# EAGLE library part 615008160021 (library WR-MJ)
WR-MJ Gigabit Ethernet Modular Jacks – THT Characteristics Shieldingless and Shielded with EMI-Spring option Vertical and Horizontal orientations Tray Packaging Properties PoE++ Compatible up to 100W (IEEE 802.3bt) UL and cULus-Certified UL94-V0 reflow-compatible insulator material Ethernet Category 5e to 6A Applications Telecommunications Computing Video Internet of Things Smart Buildings <https://www.we-online.com/components/media/o161613v209%20Family_WR-MJTH_615008160021.jpg> Details see: www.we-online.com/en/components/products/WR_MJ_MODULAR_JACKS_OVER <www.we-online.com/catalog/WR_MJ_MODULAR_JACKS_OVER/?utm_source=eagle_model&utm_medium=description_link&utm_campaign=eisos_eagle> Updated by Yingchun Shan 2020-01-03 2020(C) Würth Elektronik
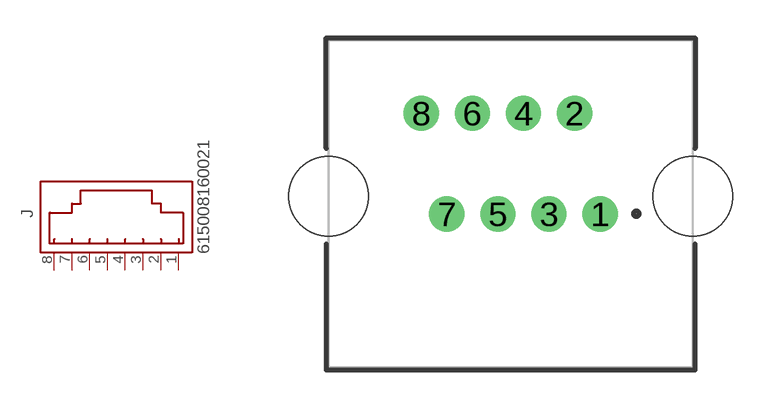
[diagram p68: symbol with the pads of 615008160021; footprint 615008160021]

Designator prefix J

## 615008160021 (APPLICATION-SYSTEM: CAT 6; DATASHEET-URL: https://www.we-online.com/redexpert/spec/615008160021?ae; EMI: No; LED: /; MOUNT: THT; PART-NUMBER: 615008160021; SIZE: Horizontal; TAB: Up; VALUE: 615008160021; XPXC: 8P8C)  [615008160021]
1  1  pas
2  2  pas
3  3  pas
4  4  pas
5  5  pas
6  6  pas
7  7  pas
8  8  pas

## Footprint 615008160021 (pad centres in mm)
WR-MJ Modular Jack THT Horizontal Plastic 8P8C Tab Up
drill 0.89: 1 3.556,-0.4; 2 2.54,3.6; 3 1.524,-0.4; 4 0.508,3.6; 5 -0.508,-0.4; 6 -1.524,3.6; 7 -2.54,-0.4; 8 -3.556,3.6
hole 3.18 at -7.24,0.3
hole 3.18 at 7.24,0.3